# Altium footprint library 1278ЕР1Т - БУ.PcbLib: 1 footprints
Each footprint in its own frame and in the unit in brackets; x right, y up, seen from the top. Pads: shape width x height; smd on the part's side, far side on the other; paste and mask are expansions set on the pad; w line width, h text height; cw(c..) or ccw(c..) is an arc to the next point about the centre after c.
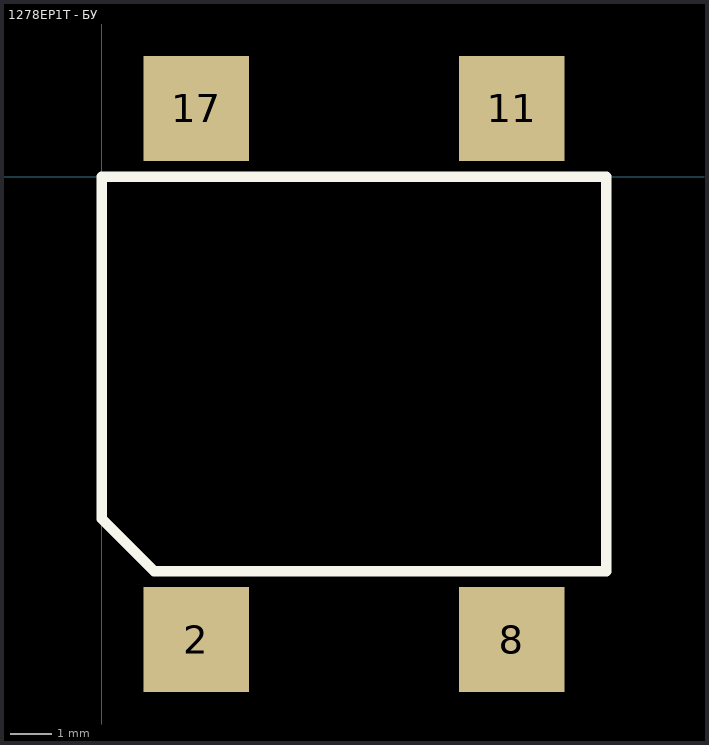
[diagram p0: the footprint, top view; thin cyan lines are the x and y axes]

## 1278ЕР1Т - БУ [mil]
pads (4):
  rect 100x100 smd: 2(90,-440) 8(390,-440) 11(390,65) 17(90,65)
Top Overlay:
  lines w10: 0,-325 50,-375 480,-375 480,0 0,0 0,-325
3D body: height 125, standoff 0, extent 0,-375 480,0